# Altium integrated library Terminal_18x18_M8.IntLib: 1 symbol
Pins are listed as number, name and electrical type; pins without a type are passive.

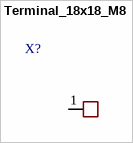
[diagram p0: symbol Terminal_18x18_M8]

## Terminal_18x18_M8
designator X?
footprint Terminal_18x18_M8
pins: 1